# EAGLE library part 87264-36 (library con-molex-milli-grid)
RECEPTACAL
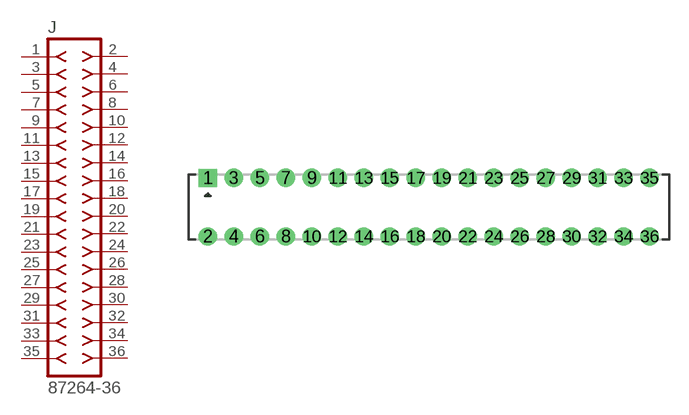
[diagram p219: symbol with the pads of 87264-36; footprint 87264-36]

Designator prefix J

## 87264-36  [87264-36]
1  1  pas
2  2  pas
3  3  pas
4  4  pas
5  5  pas
6  6  pas
7  7  pas
8  8  pas
9  9  pas
10  10  pas
11  11  pas
12  12  pas
13  13  pas
14  14  pas
15  15  pas
16  16  pas
17  17  pas
18  18  pas
19  19  pas
20  20  pas
21  21  pas
22  22  pas
23  23  pas
24  24  pas
25  25  pas
26  26  pas
27  27  pas
28  28  pas
29  29  pas
30  30  pas
31  31  pas
32  32  pas
33  33  pas
34  34  pas
35  35  pas
36  36  pas

## Footprint 87264-36 (pad centres in mm)
RECEPTACAL Dual Row, Side Entry
drill 0.914 square: 1 -17,2.25
drill 0.914: 2 -17,-2.25; 3 -15,2.25; 4 -15,-2.25; 5 -13,2.25; 6 -13,-2.25; 7 -11,2.25; 8 -11,-2.25; 9 -9,2.25; 10 -9,-2.25; 11 -7,2.25; 12 -7,-2.25; 13 -5,2.25; 14 -5,-2.25; 15 -3,2.25; 16 -3,-2.25; 17 -1,2.25; 18 -1,-2.25; 19 1,2.25; 20 1,-2.25; 21 3,2.25; 22 3,-2.25; 23 5,2.25; 24 5,-2.25; 25 7,2.25; 26 7,-2.25; 27 9,2.25; 28 9,-2.25; 29 11,2.25; 30 11,-2.25; 31 13,2.25; 32 13,-2.25; 33 15,2.25; 34 15,-2.25; 35 17,2.25; 36 17,-2.25